# EAGLE library part CD74HC4049PWR (library CD74HC4049PWR)
High Speed CMOS Logic Hex Inverting Buffers Source: Datasheet <http://www.ti.com/lit/gpn/cd74hc4049>
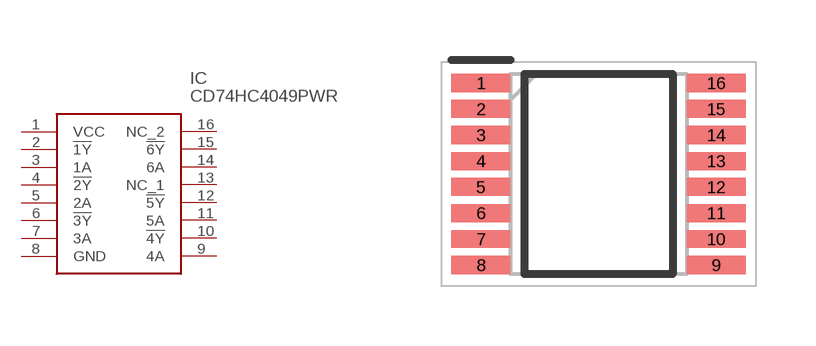
[diagram p0: symbol with the pads of SOP65P640X120-16N; footprint SOP65P640X120-16N]

Designator prefix IC

## CD74HC4049PWR (Arrow_Part_Number: CD74HC4049PWR; Arrow_Price-Stock: https://www.arrow.com/en/products/cd74hc4049pwr/texas-instruments; Description: High Speed CMOS Logic Hex Inverting Buffers; Height: 1.2mm; Manufacturer_Name: Texas Instruments; Manufacturer_Part_Number: CD74HC4049PWR; Mouser_Part_Number: 595-CD74HC4049PWR; Mouser_Price-Stock: https://www.mouser.com/Search/Refine.aspx?Keyword=595-CD74HC4049PWR)  [SOP65P640X120-16N]
1  VCC
2  !1Y
3  1A
4  !2Y
5  2A
6  !3Y
7  3A
8  GND
9  4A
10  !4Y
11  5A
12  !5Y
13  NC_1
14  6A
15  !6Y
16  NC_2

## Footprint SOP65P640X120-16N (pad centres in mm)
PW0016A
smd 1.475 x 0.45: 1 -2.938,2.275; 2 -2.938,1.625; 3 -2.938,0.975; 4 -2.938,0.325; 5 -2.938,-0.325; 6 -2.938,-0.975; 7 -2.938,-1.625; 8 -2.938,-2.275; 9 2.938,-2.275; 10 2.938,-1.625; 11 2.938,-0.975; 12 2.938,-0.325; 13 2.938,0.325; 14 2.938,0.975; 15 2.938,1.625; 16 2.938,2.275